# Altium footprint library G3MB-202P.PcbLib: 1 footprints
Each footprint in its own frame and in the unit in brackets; x right, y up, seen from the top. Pads: shape width x height; smd on the part's side, far side on the other; paste and mask are expansions set on the pad; w line width, h text height; cw(c..) or ccw(c..) is an arc to the next point about the centre after c.
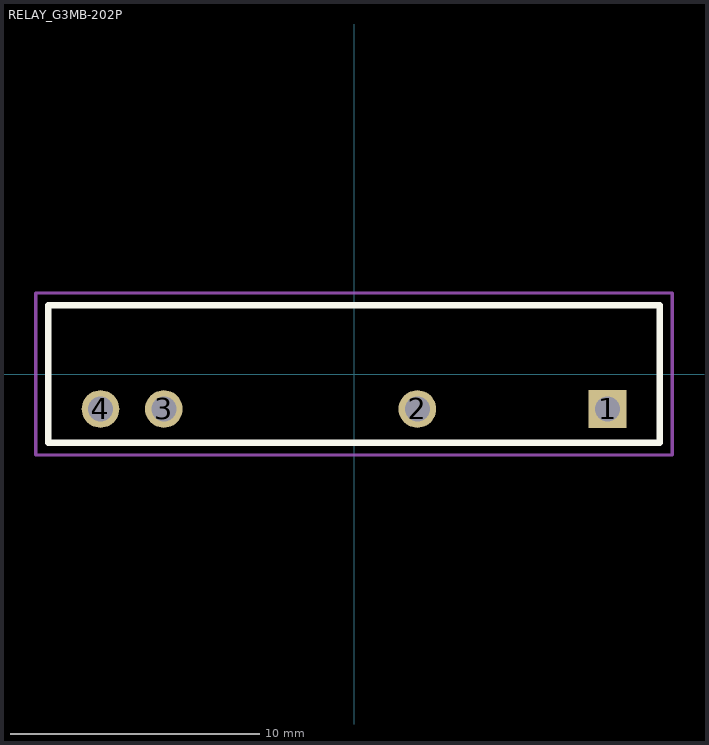
[diagram p0: the footprint, top view; thin cyan lines are the x and y axes]

## RELAY_G3MB-202P [mm]
pads (4):
  rect 1.508x1.508 hole 1: 1(10.16,-1.4)
  round 1.508 hole 1: 2(2.54,-1.4) 3(-7.62,-1.4) 4(-10.16,-1.4)
Top Overlay:
  lines w0.254: -12.25,-2.75 12.25,-2.75 12.25,2.75 -12.25,2.75 -12.25,-2.75
Mechanical 15:
  lines w0.127: -12.75,-3.25 12.75,-3.25 12.75,3.25 -12.75,3.25 -12.75,-3.25
3D body "step_temp.STEP": height 20.5, standoff -3.9, extent -12.25,-1.35 12.25,4.15